# Altium footprint library resistor0075(footprint).PcbLib: 1 footprints
Each footprint in its own frame and in the unit in brackets; x right, y up, seen from the top. Pads: shape width x height; smd on the part's side, far side on the other; paste and mask are expansions set on the pad; w line width, h text height; cw(c..) or ccw(c..) is an arc to the next point about the centre after c.
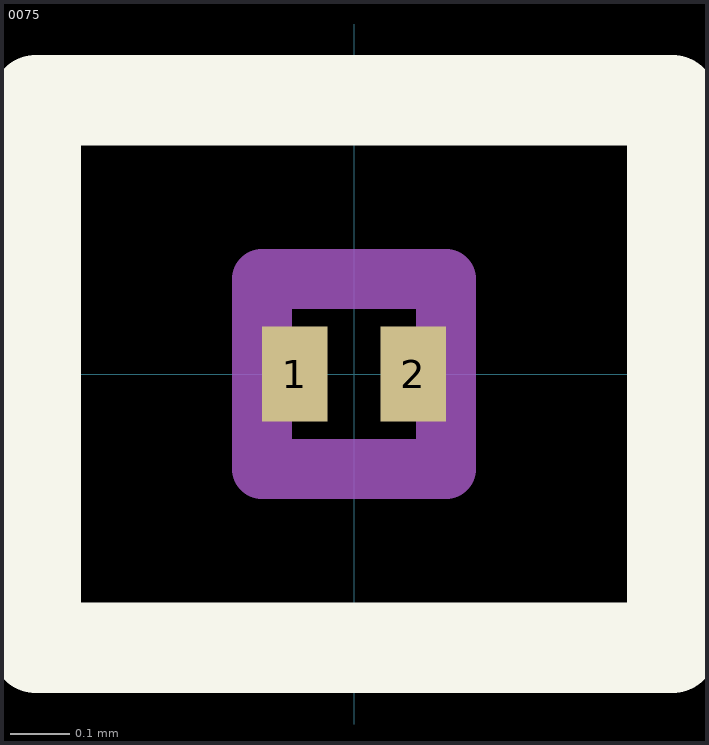
[diagram p0: the footprint, top view; thin cyan lines are the x and y axes]

## 0075 [mm] "RES 10K OHM 5% 1/16W 0402"
pads (2):
  rect 0.11x0.16 smd mask+0.076: 1(-0.1,0) 2(0.1,0)
Top Overlay:
  lines w0.152: -0.536,-0.461 -0.536,0.461 0.536,0.461 0.536,-0.461 -0.536,-0.461
Mechanical 13:
  lines w0.102: -0.155,-0.16 -0.155,0.16 0.155,0.16 0.155,-0.16 -0.155,-0.16